# Altium integrated library AS72651-BLGT.IntLib: 1 symbol
Pins are listed as number, name and electrical type; pins without a type are passive.

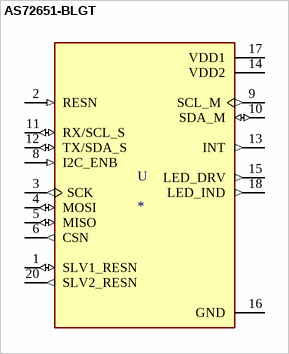
[diagram p0: symbol AS72651-BLGT]

## AS72651-BLGT
designator U
AS72651-BLGT LGA20 LF T&RDP; MF: ams; MP: AS72651-BLGT; Digi-Key_Purchase_URL: https://www.digikey.com/product-detail/en/ams/AS72651-BLGT/AS72651-BLGTCT-ND/9486614?utm_source=snapeda&utm_medium=aggregator&utm_campaign=symbol; SnapEDA_Link: https://www.snapeda.com/parts/AS72651-BLGT/ams/view-part/2769323/?ref=snap; Package: LGA-20 ams; Value: *; Digi-Key_Part_Number: AS72651-BLGTCT-ND
footprint PQFN65P470X450X270-20N
pins: 1 SLV1_RESN (io), 2 RESN (in), 3 SCK (out), 4 MOSI (io), 5 MISO (io), 6 CSN (out), 8 I2C_ENB (in), 9 SCL_M (out), 10 SDA_M (io), 11 RX/SCL_S (io), 12 TX/SDA_S (io), 13 INT (out), 14 VDD2 (power), 15 LED_DRV (out), 16 GND (power), 17 VDD1 (power), 18 LED_IND (out), 20 SLV2_RESN (out)